# Altium integrated library Atmel Memory EEPROM.IntLib: 165 symbols (part 5 of 5)
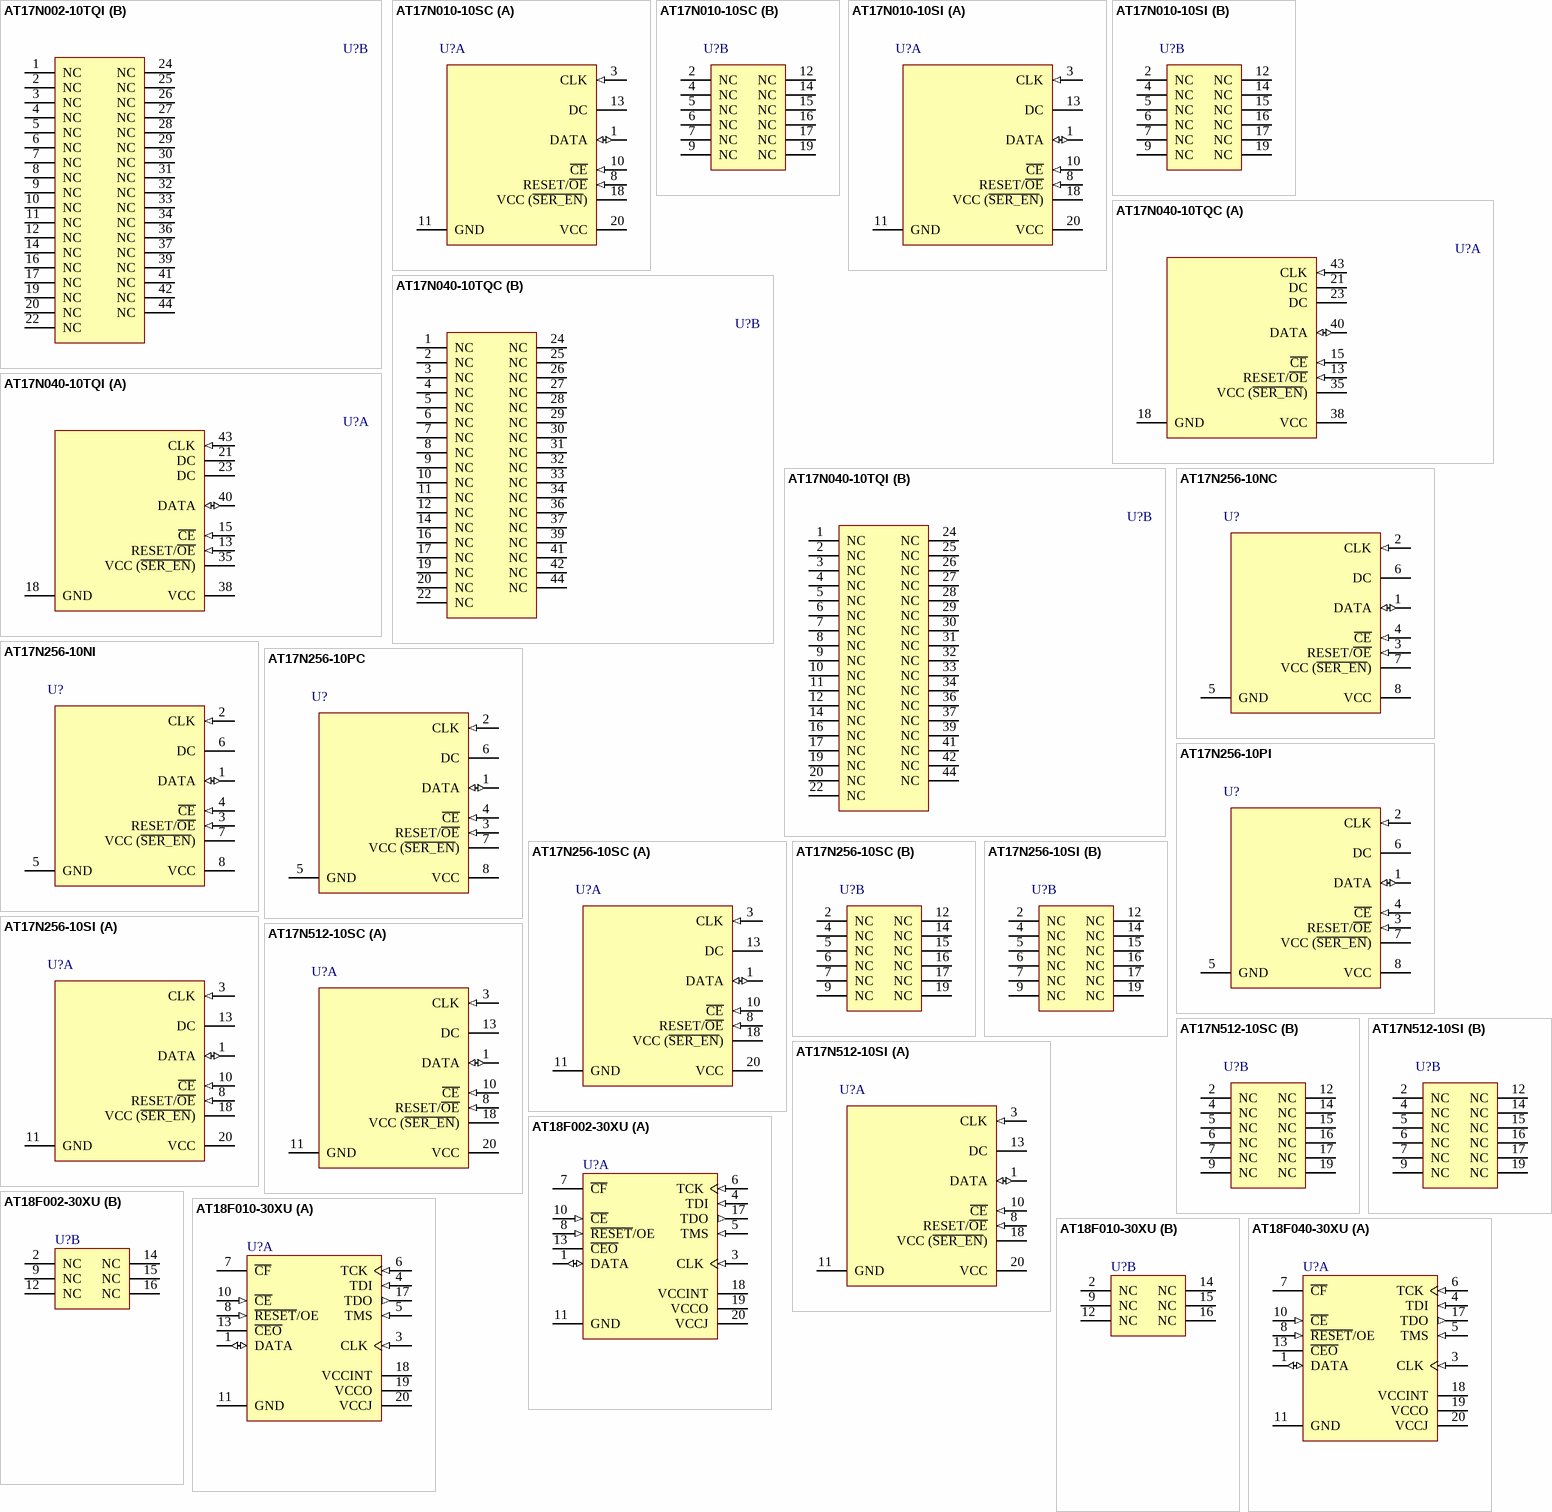
[diagram p12: symbols AT17N002-10TQI to AT18F040-30XU]

## AT17N256-10SC
designator U?
FPGA Configuration Memory, 256-Kbit Memory, 20Pin SOIC, Commercial Grade (0°C to 70°C); Published: 20-Sep-2010; DatasheetVersion: revC, Aug-2007; PackageVersion: revB, Nov-2006; PackageReference: 20S2; Publisher: Altium Limited; PackageDescription: 20-lead, 0.300" Wide Body, Plastic Gull Wing Small Outline Package (SOIC); Supplier 1: Mouser; Supplier Part Number 1: 556-AT17N25610SC; Code_JEDEC: MS-013-AC; Code_IPC: SOIC127P1030-20; ComponentLink1Description: Manufacturer Link; ComponentLink1URL: http://www.atmel.com/products/Config; ComponentLink2Description: AT17N256 Datasheet; ComponentLink2URL: http://www.atmel.com/dyn/resources/prod_documents/doc3020.pdf; ComponentLink3Description: Atmel.com Home; ComponentLink3URL: http://www.atmel.com
footprint 20S2_N (SOIC, 20-Leads, Body 12.8x7.5mm, Pitch 1.27mm, IPC Medium Density)
footprint 20S2_L (SOIC, 20-Leads, Body 12.8x7.5mm, Pitch 1.27mm, IPC High Density)
footprint 20S2_M (SOIC, 20-Leads, Body 12.8x7.5mm, Pitch 1.27mm, IPC Low Density)
part A pins: 1 DATA (io), 3 CLK (in), 8 RESET/~{OE} (in), 10 ~{CE} (in), 11 GND (power), 13 DC, 18 VCC (~{SER_EN}) (power), 20 VCC (power)
part B pins: 2 NC, 4 NC, 5 NC, 6 NC, 7 NC, 9 NC, 12 NC, 14 NC, 15 NC, 16 NC, 17 NC, 19 NC

## AT17N256-10SI
designator U?
FPGA Configuration Memory, 256-Kbit Memory, 20Pin SOIC, Industrial Grade (-40°C to 85°C); Published: 20-Sep-2010; DatasheetVersion: revC, Aug-2007; PackageVersion: revB, Nov-2006; PackageReference: 20S2; Publisher: Altium Limited; PackageDescription: 20-lead, 0.300" Wide Body, Plastic Gull Wing Small Outline Package (SOIC); Supplier 1: Mouser; Supplier Part Number 1: 556-AT17N256-10SI; Code_JEDEC: MS-013-AC; Code_IPC: SOIC127P1030-20; ComponentLink1Description: Manufacturer Link; ComponentLink1URL: http://www.atmel.com/products/Config; ComponentLink2Description: AT17N256 Datasheet; ComponentLink2URL: http://www.atmel.com/dyn/resources/prod_documents/doc3020.pdf; ComponentLink3Description: Atmel.com Home; ComponentLink3URL: http://www.atmel.com
footprint 20S2_N (SOIC, 20-Leads, Body 12.8x7.5mm, Pitch 1.27mm, IPC Medium Density)
footprint 20S2_L (SOIC, 20-Leads, Body 12.8x7.5mm, Pitch 1.27mm, IPC High Density)
footprint 20S2_M (SOIC, 20-Leads, Body 12.8x7.5mm, Pitch 1.27mm, IPC Low Density)
part A pins: 1 DATA (io), 3 CLK (in), 8 RESET/~{OE} (in), 10 ~{CE} (in), 11 GND (power), 13 DC, 18 VCC (~{SER_EN}) (power), 20 VCC (power)
part B pins: 2 NC, 4 NC, 5 NC, 6 NC, 7 NC, 9 NC, 12 NC, 14 NC, 15 NC, 16 NC, 17 NC, 19 NC

## AT17N512-10SC
designator U?
FPGA Configuration Memory, 512-Kbit Memory, 20Pin SOIC, Commercial Grade (0°C to 70°C); Published: 20-Sep-2010; DatasheetVersion: revC, Aug-2007; PackageVersion: revB, Nov-2006; PackageReference: 20S2; Publisher: Altium Limited; PackageDescription: 20-lead, 0.300" Wide Body, Plastic Gull Wing Small Outline Package (SOIC); Supplier 1: Digi-Key; Supplier Part Number 1: AT17N512-10SC-ND; Supplier 2: Mouser; Supplier Part Number 2: 556-AT17N51210SC; Code_JEDEC: MS-013-AC; Code_IPC: SOIC127P1030-20; ComponentLink1Description: Manufacturer Link; ComponentLink1URL: http://www.atmel.com/products/Config; ComponentLink2Description: AT17N512 Datasheet; ComponentLink2URL: http://www.atmel.com/dyn/resources/prod_documents/doc3020.pdf; ComponentLink3Description: Atmel.com Home; ComponentLink3URL: http://www.atmel.com
footprint 20S2_N (SOIC, 20-Leads, Body 12.8x7.5mm, Pitch 1.27mm, IPC Medium Density)
footprint 20S2_L (SOIC, 20-Leads, Body 12.8x7.5mm, Pitch 1.27mm, IPC High Density)
footprint 20S2_M (SOIC, 20-Leads, Body 12.8x7.5mm, Pitch 1.27mm, IPC Low Density)
part A pins: 1 DATA (io), 3 CLK (in), 8 RESET/~{OE} (in), 10 ~{CE} (in), 11 GND (power), 13 DC, 18 VCC (~{SER_EN}) (power), 20 VCC (power)
part B pins: 2 NC, 4 NC, 5 NC, 6 NC, 7 NC, 9 NC, 12 NC, 14 NC, 15 NC, 16 NC, 17 NC, 19 NC

## AT17N512-10SI
designator U?
FPGA Configuration Memory, 512-Kbit Memory, 20Pin SOIC, Industrial Grade (-40°C to 85°C); Published: 20-Sep-2010; DatasheetVersion: revC, Aug-2007; PackageVersion: revB, Nov-2006; PackageReference: 20S2; Publisher: Altium Limited; PackageDescription: 20-lead, 0.300" Wide Body, Plastic Gull Wing Small Outline Package (SOIC); Supplier 1: Digi-Key; Supplier Part Number 1: AT17N512-10SI-ND; Supplier 2: Mouser; Supplier Part Number 2: 556-AT17N512-10SI; Code_JEDEC: MS-013-AC; Code_IPC: SOIC127P1030-20; ComponentLink1Description: Manufacturer Link; ComponentLink1URL: http://www.atmel.com/products/Config; ComponentLink2Description: AT17N512 Datasheet; ComponentLink2URL: http://www.atmel.com/dyn/resources/prod_documents/doc3020.pdf; ComponentLink3Description: Atmel.com Home; ComponentLink3URL: http://www.atmel.com
footprint 20S2_N (SOIC, 20-Leads, Body 12.8x7.5mm, Pitch 1.27mm, IPC Medium Density)
footprint 20S2_L (SOIC, 20-Leads, Body 12.8x7.5mm, Pitch 1.27mm, IPC High Density)
footprint 20S2_M (SOIC, 20-Leads, Body 12.8x7.5mm, Pitch 1.27mm, IPC Low Density)
part A pins: 1 DATA (io), 3 CLK (in), 8 RESET/~{OE} (in), 10 ~{CE} (in), 11 GND (power), 13 DC, 18 VCC (~{SER_EN}) (power), 20 VCC (power)
part B pins: 2 NC, 4 NC, 5 NC, 6 NC, 7 NC, 9 NC, 12 NC, 14 NC, 15 NC, 16 NC, 17 NC, 19 NC

## AT18F002-30XU
designator U?
FPGA Configuration Flash Memory, 2-MBit Memory, 20-Pin TSSOP, Industrial Grade (-40°C to 85°C); Published: 20-Sep-2010; DatasheetVersion: revA, Jan-2008; PackageVersion: revC, Jun-2002; PackageReference: 20A2; Publisher: Altium Limited; PackageDescription: 20-lead, 4.4 x 6.5 mm Body, 0.65 mm Pitch, Thin Shrink Small Outline Package (TSSOP); Supplier 1: Digi-Key; Supplier Part Number 1: AT18F002-30XU-ND; Supplier 2: Mouser; Supplier Part Number 2: 556-AT18F002-30XU; Code_JEDEC: MO-153-AC; ComponentLink1Description: Manufacturer Link; ComponentLink1URL: http://www.atmel.com/products/Config; ComponentLink2Description: AT18F002 Datasheet; ComponentLink2URL: http://www.atmel.com/dyn/resources/prod_documents/doc3672.pdf; ComponentLink3Description: Atmel.com Home; ComponentLink3URL: http://www.atmel.com
footprint 20A2_N (TSOP, 20-Leads, Body 6.5x4.4mm, Pitch 0.65mm, IPC Medium Density)
footprint 20A2_L (TSOP, 20-Leads, Body 6.5x4.4mm, Pitch 0.65mm, IPC High Density)
footprint 20A2_M (TSOP, 20-Leads, Body 6.5x4.4mm, Pitch 0.65mm, IPC Low Density)
part A pins: 1 DATA (io), 3 CLK (in), 4 TDI (in), 5 TMS (in), 6 TCK (in), 7 ~{CF} (oc), 8 ~{RESET}/OE (in), 10 ~{CE} (in), 11 GND (power), 13 ~{CEO}, 17 TDO (out), 18 VCCINT (power), 19 VCCO (power), 20 VCCJ (power)
part B pins: 2 NC, 9 NC, 12 NC, 14 NC, 15 NC, 16 NC

## AT18F010-30XU
designator U?
FPGA Configuration Flash Memory, 1-MBit Memory, 20-Pin TSSOP, Industrial Grade (-40°C to 85°C); Published: 20-Sep-2010; DatasheetVersion: revA, Jan-2008; PackageVersion: revC, Jun-2002; PackageReference: 20A2; Publisher: Altium Limited; PackageDescription: 20-lead, 4.4 x 6.5 mm Body, 0.65 mm Pitch, Thin Shrink Small Outline Package (TSSOP); Supplier 1: Digi-Key; Supplier Part Number 1: AT18F010-30XU-ND; Supplier 2: Mouser; Supplier Part Number 2: 556-AT18F010-30XU; Code_JEDEC: MO-153-AC; ComponentLink1Description: Manufacturer Link; ComponentLink1URL: http://www.atmel.com/products/Config; ComponentLink2Description: AT18F010 Datasheet; ComponentLink2URL: http://www.atmel.com/dyn/resources/prod_documents/doc3672.pdf; ComponentLink3Description: Atmel.com Home; ComponentLink3URL: http://www.atmel.com
footprint 20A2_N (TSOP, 20-Leads, Body 6.5x4.4mm, Pitch 0.65mm, IPC Medium Density)
footprint 20A2_L (TSOP, 20-Leads, Body 6.5x4.4mm, Pitch 0.65mm, IPC High Density)
footprint 20A2_M (TSOP, 20-Leads, Body 6.5x4.4mm, Pitch 0.65mm, IPC Low Density)
part A pins: 1 DATA (io), 3 CLK (in), 4 TDI (in), 5 TMS (in), 6 TCK (in), 7 ~{CF} (oc), 8 ~{RESET}/OE (in), 10 ~{CE} (in), 11 GND (power), 13 ~{CEO}, 17 TDO (out), 18 VCCINT (power), 19 VCCO (power), 20 VCCJ (power)
part B pins: 2 NC, 9 NC, 12 NC, 14 NC, 15 NC, 16 NC

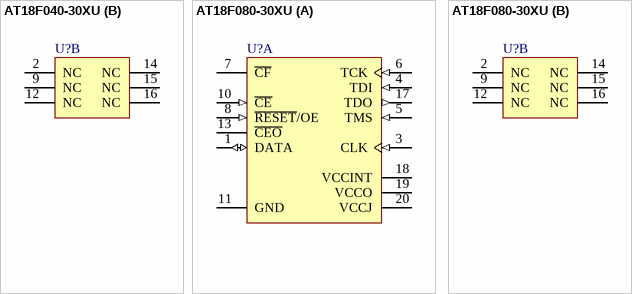
[diagram p8: symbols AT18F040-30XU to AT18F080-30XU]

## AT18F040-30XU
designator U?
FPGA Configuration Flash Memory, 4-MBit Memory, 20-Pin TSSOP, Industrial Grade (-40°C to 85°C); Published: 20-Sep-2010; DatasheetVersion: revA, Jan-2008; PackageVersion: revC, Jun-2002; PackageReference: 20A2; Publisher: Altium Limited; PackageDescription: 20-lead, 4.4 x 6.5 mm Body, 0.65 mm Pitch, Thin Shrink Small Outline Package (TSSOP); Supplier 1: Digi-Key; Supplier Part Number 1: AT18F040-30XU-ND; Supplier 2: Mouser; Supplier Part Number 2: 556-AT18F040-30XU; Code_JEDEC: MO-153-AC; ComponentLink1Description: Manufacturer Link; ComponentLink1URL: http://www.atmel.com/products/Config; ComponentLink2Description: AT18F040 Datasheet; ComponentLink2URL: http://www.atmel.com/dyn/resources/prod_documents/doc3672.pdf; ComponentLink3Description: Atmel.com Home; ComponentLink3URL: http://www.atmel.com
footprint 20A2_N (TSOP, 20-Leads, Body 6.5x4.4mm, Pitch 0.65mm, IPC Medium Density)
footprint 20A2_L (TSOP, 20-Leads, Body 6.5x4.4mm, Pitch 0.65mm, IPC High Density)
footprint 20A2_M (TSOP, 20-Leads, Body 6.5x4.4mm, Pitch 0.65mm, IPC Low Density)
part A pins: 1 DATA (io), 3 CLK (in), 4 TDI (in), 5 TMS (in), 6 TCK (in), 7 ~{CF} (oc), 8 ~{RESET}/OE (in), 10 ~{CE} (in), 11 GND (power), 13 ~{CEO}, 17 TDO (out), 18 VCCINT (power), 19 VCCO (power), 20 VCCJ (power)
part B pins: 2 NC, 9 NC, 12 NC, 14 NC, 15 NC, 16 NC

## AT18F080-30XU
designator U?
FPGA Configuration Flash Memory, 7-MBit Memory, 20-Pin TSSOP, Industrial Grade (-40°C to 85°C); Published: 20-Sep-2010; DatasheetVersion: revA, Jan-2008; PackageVersion: revC, Jun-2002; PackageReference: 20A2; Publisher: Altium Limited; PackageDescription: 20-lead, 4.4 x 6.5 mm Body, 0.65 mm Pitch, Thin Shrink Small Outline Package (TSSOP); Supplier 1: Digi-Key; Supplier Part Number 1: AT18F080-30XU-ND; Supplier 2: Mouser; Supplier Part Number 2: 556-AT18F080-30XU; Code_JEDEC: MO-153-AC; ComponentLink1Description: Manufacturer Link; ComponentLink1URL: http://www.atmel.com/products/Config; ComponentLink2Description: AT18F080 Datasheet; ComponentLink2URL: http://www.atmel.com/dyn/resources/prod_documents/doc3672.pdf; ComponentLink3Description: Atmel.com Home; ComponentLink3URL: http://www.atmel.com
footprint 20A2_N (TSOP, 20-Leads, Body 6.5x4.4mm, Pitch 0.65mm, IPC Medium Density)
footprint 20A2_L (TSOP, 20-Leads, Body 6.5x4.4mm, Pitch 0.65mm, IPC High Density)
footprint 20A2_M (TSOP, 20-Leads, Body 6.5x4.4mm, Pitch 0.65mm, IPC Low Density)
part A pins: 1 DATA (io), 3 CLK (in), 4 TDI (in), 5 TMS (in), 6 TCK (in), 7 ~{CF} (oc), 8 ~{RESET}/OE (in), 10 ~{CE} (in), 11 GND (power), 13 ~{CEO}, 17 TDO (out), 18 VCCINT (power), 19 VCCO (power), 20 VCCJ (power)
part B pins: 2 NC, 9 NC, 12 NC, 14 NC, 15 NC, 16 NC